# Altium footprint library PcbLib.PcbLib: 285 footprints (part 11 of 18)
Each footprint in its own frame and in the unit in brackets; x right, y up, seen from the top. Pads: shape width x height; smd on the part's side, far side on the other; paste and mask are expansions set on the pad; w line width, h text height; cw(c..) or ccw(c..) is an arc to the next point about the centre after c.
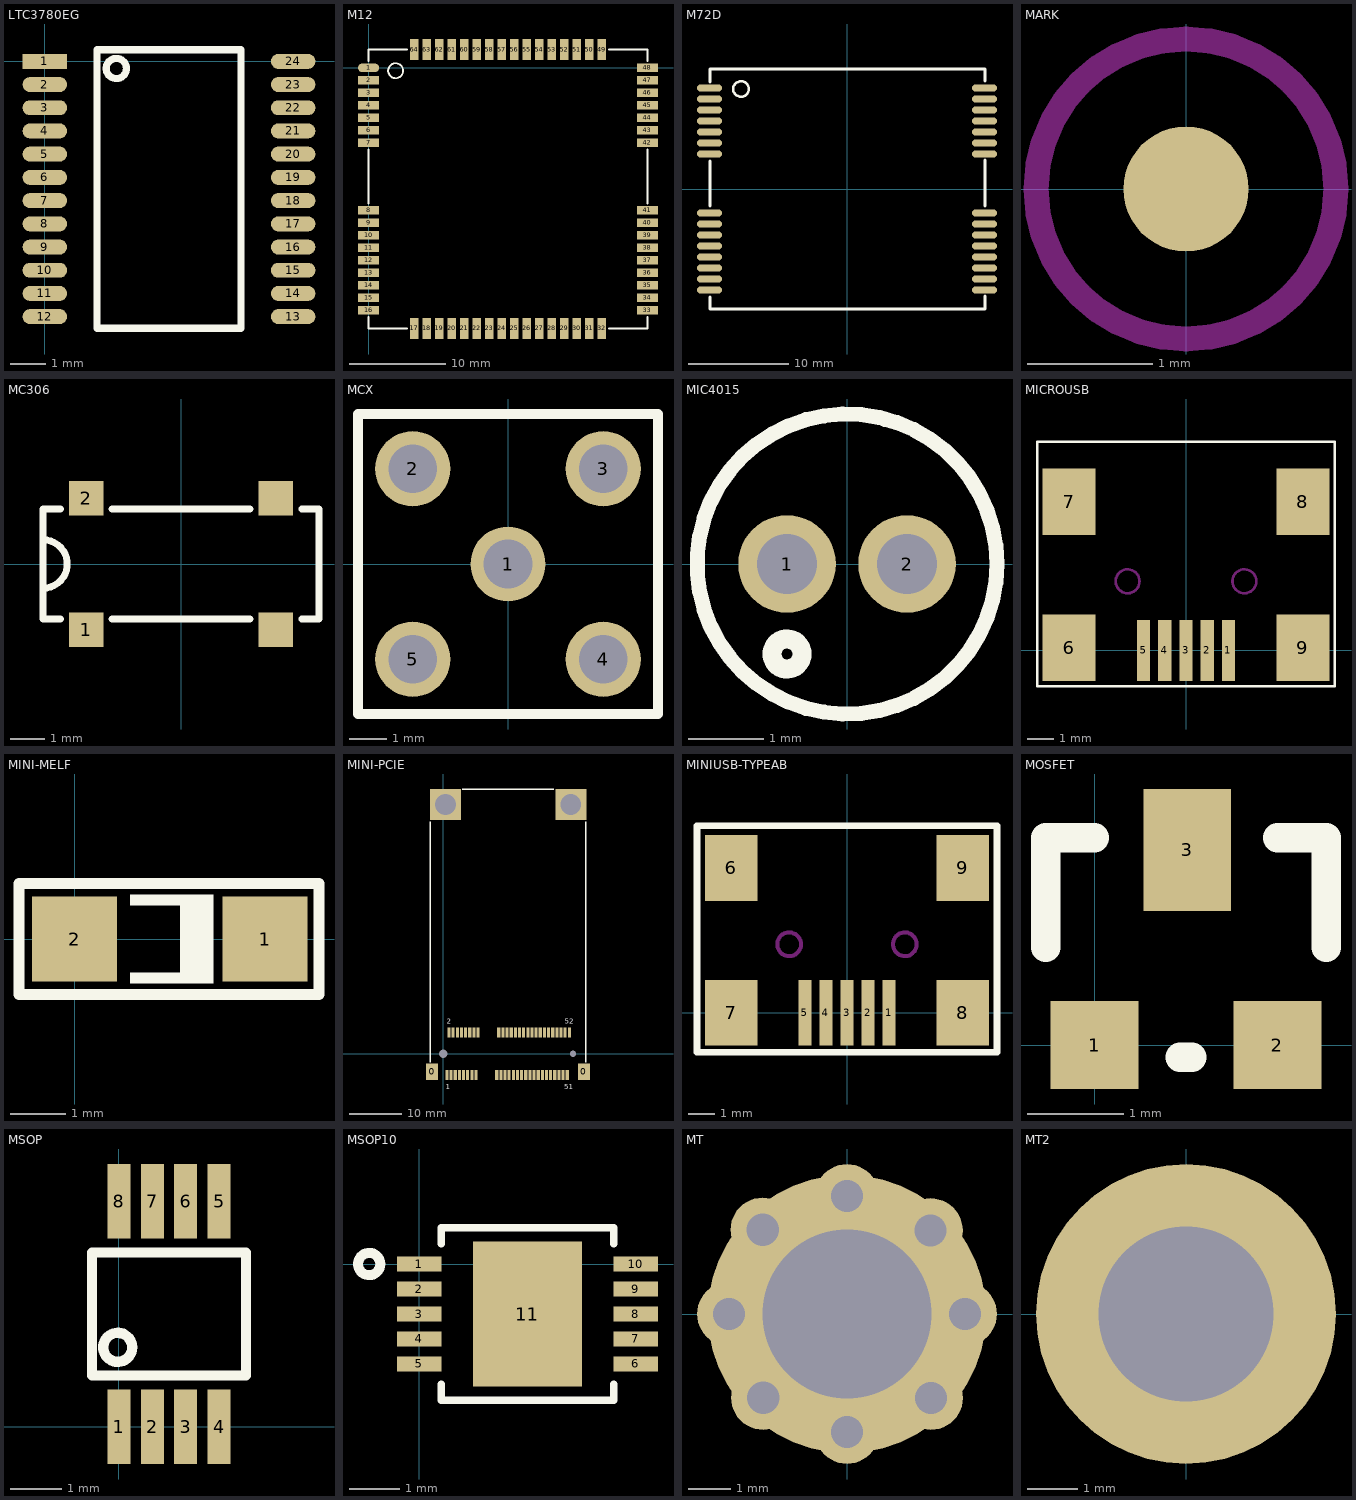
[diagram p10: the footprints below, top view; thin cyan lines are the x and y axes]

## LTC3780EG [mm]
pads (24):
  rect 1.25x0.42 smd: 1(0,0)
  oval 1.25x0.42 smd: 2(0,-0.65) 3(0,-1.3) 4(0,-1.95) 5(0,-2.6) 6(0,-3.25) 7(0,-3.9) 8(0,-4.55) 9(0,-5.2) 10(0,-5.85) 11(0,-6.5) 12(0,-7.15) 13(6.95,-7.15) 14(6.95,-6.5) 15(6.95,-5.85) 16(6.95,-5.2) 17(6.95,-4.55) 18(6.95,-3.9) 19(6.95,-3.25) 20(6.95,-2.6) 21(6.95,-1.95) 22(6.95,-1.3) 23(6.95,-0.65) 24(6.95,0)
Top Overlay:
  circle w0.2: c2,-0.2 r0.283
  lines w0.2: 3.1,0.325 4.3,0.325 ; 3.313,0.325 1.46,0.325 1.46,-7.475 5.49,-7.475 5.49,0.325 3.637,0.325

## M12 [mm]
pads (64):
  oval 2.2x0.9 smd: 1(0,0)
  rect 2.2x0.9 smd: 2(0,-1.3) 3(0,-2.6) 4(0,-3.9) 5(0,-5.2) 6(0,-6.5) 7(0,-7.8) 8(0,-14.8) 9(0,-16.1) 10(0,-17.4) 11(0,-18.7) 12(0,-20) 13(0,-21.3) 14(0,-22.6) 15(0,-23.9) 16(0,-25.2) 33(29,-25.2) 34(29,-23.9) 35(29,-22.6) 36(29,-21.3) 37(29,-20) 38(29,-18.7) 39(29,-17.4) 40(29,-16.1) 41(29,-14.8) 42(29,-7.8) 43(29,-6.5) 44(29,-5.2) 45(29,-3.9) 46(29,-2.6) 47(29,-1.3) 48(29,0)
  rect 0.9x2.2 smd: 17(4.75,-27.1) 18(6.05,-27.1) 19(7.35,-27.1) 20(8.65,-27.1) 21(9.95,-27.1) 22(11.25,-27.1) 23(12.55,-27.1) 24(13.85,-27.1) 25(15.15,-27.1) 26(16.45,-27.1) 27(17.75,-27.1) 28(19.05,-27.1) 29(20.35,-27.1) 30(21.65,-27.1) 31(22.95,-27.1) 32(24.25,-27.1) 49(24.25,1.9) 50(22.95,1.9) 51(21.65,1.9) 52(20.35,1.9) 53(19.05,1.9) 54(17.75,1.9) 55(16.45,1.9) 56(15.15,1.9) 57(13.85,1.9) 58(12.55,1.9) 59(11.25,1.9) 60(9.95,1.9) 61(8.65,1.9) 62(7.35,1.9) 63(6.05,1.9) 64(4.75,1.9)
Top Overlay:
  circle w0.2: c2.819,-0.3 r0.781
  lines w0.2: 0,-25.9 0,-27.1 4,-27.1 ; 0,-14.1 0,-8.5 ; 0,0.7 0,1.9 4,1.9 ; 25,-27.1 29,-27.1 29,-25.9 ; 25,1.9 29,1.9 29,0.7 ; 29,-14.1 29,-8.5

## M72D [mm]
pads (30):
  oval 2.5x0.7 smd: 1(-13.75,10.1) 2(-13.75,9) 3(-13.75,7.9) 4(-13.75,6.8) 5(-13.75,5.7) 6(-13.75,4.6) 7(-13.75,3.5) 8(-13.75,-2.4) 9(-13.75,-3.5) 10(-13.75,-4.6) 11(-13.75,-5.7) 12(-13.75,-6.8) 13(-13.75,-7.9) 14(-13.75,-9) 15(-13.75,-10.1) 16(13.75,-10.1) 17(13.75,-9) 18(13.75,-7.9) 19(13.75,-6.8) 20(13.75,-5.7) 21(13.75,-4.6) 22(13.75,-3.5) 23(13.75,-2.4) 24(13.75,3.5) 25(13.75,4.6) 26(13.75,5.7) 27(13.75,6.8) 28(13.75,7.9) 29(13.75,9) 30(13.75,10.1)
Top Overlay:
  circle w0.254: c-10.6,10 r0.781
  lines w0.254: -13.7,-10.8 -13.7,-12 13.8,-12 13.8,-10.7 ; -13.7,-1.7 -13.7,2.8 ; -13.7,10.7 -13.7,12 13.8,12 13.8,10.8 ; 13.8,-1.7 13.8,2.9

## MARK [mm]
pads (1):
  round 1 smd paste-0.5 mask+0.6: ""(0,0)
Keep-Out Layer:
  circle w0.2: c0,0 r1.2

## MC306 [mm]
pads (4):
  rect 1x1 smd: 1(-2.75,-1.9) 2(-2.75,1.9) ""(2.75,-1.9) ""(2.75,1.9)
Top Overlay:
  lines w0.1: -4,-1.6 -4,1.6
  lines w0.2: -4,-0.7 ccw(c-4,0) -4,0.7 ; -3.5,-1.6 -4,-1.6 -4,1.6 -3.5,1.6 ; -2,-1.6 2,-1.6 ; -2,1.6 2,1.6 ; 3.5,-1.6 4,-1.6 4,1.6 3.5,1.6

## MCX [mm]
pads (5):
  round 2 hole 1.3: 1(0,0) 2(-2.54,2.54) 3(2.54,2.54) 4(2.54,-2.54) 5(-2.54,-2.54)
Top Overlay:
  lines w0.254: -4,-4 -4,4 4,4 4,-4 -4,-4

## MIC4015 [mm]
pads (2):
  round 1.3 hole 0.8: 1(-0.8,0) 2(0.8,0)
Top Overlay:
  circle w0.2: c0,0 r2
  circle w0.254: c-0.8,-1.2 r0.2
  lines w0.15: 0.5,1.9 0.6,1.9

## MICROUSB [mm]
pads (9):
  rect 0.5x2.3 smd: 1(1.6,0) 2(0.8,0) 3(0,0) 4(-0.8,0) 5(-1.6,0)
  rect 2x2.5 smd: 6(-4.4,0.1) 7(-4.4,5.6) 8(4.4,5.6) 9(4.4,0.1)
Top Overlay:
  lines w0.1: -5.6,-1.35 -5.6,7.85 5.6,7.85 5.6,-1.3 5.6,-1.35 -4.7,-1.35 -5.6,-1.35
Keep-Out Layer:
  circle w0.1: c2.2,2.6 r0.45
  circle w0.1: c-2.2,2.6 r0.45

## MINI-MELF [mil]
pads (2):
  rect 60x60 smd: 1(135,0) 2(0,0)
Top Overlay:
  rectangle: 74.8,-31.5 98.43,31.5
  rectangle: 39.37,23.62 98.43,31.5
  rectangle: 39.37,-31.5 98.43,-23.62
  lines w7.87: 3.94,39.37 173.23,39.37 173.23,-39.37 -39.37,-39.37 -39.37,39.37 11.81,39.37

## MINI-PCIE [mm]
pads (60):
  rect 2.3x3.2 smd: 0(-2.15,-3.5) 0(27.1,-3.5)
  rect 0.6x2 smd: 1(0.7,-4.1) 2(1.1,4.1) 3(1.5,-4.1) 4(1.9,4.1) 5(2.3,-4.1) 6(2.7,4.1) 7(3.1,-4.1) 8(3.5,4.1) 9(3.9,-4.1) 10(4.3,4.1) 11(4.7,-4.1) 12(5.1,4.1) 13(5.5,-4.1) 14(5.9,4.1) 15(6.3,-4.1) 16(6.7,4.1) 17(10.3,-4.1) 18(10.7,4.1) 19(11.1,-4.1) 20(11.5,4.1) 21(11.9,-4.1) 22(12.3,4.1) 23(12.7,-4.1) 24(13.1,4.1) 25(13.5,-4.1) 26(13.9,4.1) 27(14.3,-4.1) 28(14.7,4.1) 29(15.1,-4.1) 30(15.5,4.1) 31(15.9,-4.1) 32(16.3,4.1) 33(16.7,-4.1) 34(17.1,4.1) 35(17.5,-4.1) 36(17.9,4.1) 37(18.3,-4.1) 38(18.7,4.1) 39(19.1,-4.1) 40(19.5,4.1) 41(19.9,-4.1) 42(20.3,4.1) 43(20.7,-4.1) 44(21.1,4.1) 45(21.5,-4.1) 46(21.9,4.1) 47(22.3,-4.1) 48(22.7,4.1) 49(23.1,-4.1) 50(23.5,4.1) 51(23.9,-4.1) 52(24.3,4.1)
  round 1 hole 1.7 unplated: ""(0,0)
  rect 6x6 hole 4: ""(0.4,48.05) ""(24.6,48.05)
  rect 6x6 on Top Paste: ""(0.4,48.05) ""(24.6,48.05)
  round 1 hole 1.2: ""(25,0)
Top Overlay:
  lines w0.254: -2.5,-1.6 -2.5,44.7 ; 3.7,51 21.3,51 ; 27.5,-1.6 27.5,44.7
  text "51" at 23.3,-6.8 h1
  text "52" at 23.4,5.8 h1
  text "2" at 0.7,5.8 h1
  text "1" at 0.5,-6.8 h1

## MINIUSB-TYPEAB [mm]
pads (9):
  rect 0.5x2.5 smd: 1(1.6,0) 2(0.8,0) 3(0,0) 4(-0.8,0) 5(-1.6,0)
  rect 2x2.5 smd: 6(-4.4,5.5) 7(-4.4,0) 8(4.4,0) 9(4.4,5.5)
Top Overlay:
  lines w0.254: -0.3,-1.5 5.7,-1.5 5.7,7.1 -5.7,7.1 -5.7,7 -5.7,-1.5 -5.6,-1.5 0,-1.5
Keep-Out Layer:
  circle w0.152: c2.2,2.6 r0.45
  circle w0.152: c-2.2,2.6 r0.45

## MOSFET [mil]
pads (3):
  rect 36x36 smd: 1(0,0) 2(75,0)
  rect 36x50 smd: 3(38,80)
Top Overlay:
  lines w12: -20,40 -20,85 0,85 ; 35,-5 40,-5 ; 75,85 95,85 95,40

## MSOP [mm]
pads (8):
  rect 0.45x1.45 smd: 1(0,0) 2(0.65,0) 3(1.3,0) 4(1.95,0) 5(1.95,4.4) 6(1.3,4.4) 7(0.65,4.4) 8(0,4.4)
Top Overlay:
  circle w0.2: c-0.025,1.55 r0.283
  lines w0.2: -0.525,1 -0.525,3.4 0.975,3.4 2.475,3.4 2.475,1 -0.525,1

## MSOP10 [mil]
pads (11):
  rect 35x12 smd: 1(0,0) 2(0,-19.68) 3(0,-39.37) 4(0,-59.06) 5(0,-78.74) 6(170.9,-78.74) 7(170.9,-59.06) 8(170.9,-39.37) 9(170.9,-19.68) 10(170.9,0)
  rect 86x114 smd: 11(85.45,-39.37)
Top Overlay:
  circle w7.87: c-39.37,0 r8.8
  lines w6: 17.39,-94.74 17.39,-107.43 153.51,-107.43 153.51,-94.74 ; 17.39,16 17.39,28.69 153.51,28.69 153.51,16
Top Paste:
  pour cut-out: 89.78,6.3 119.78,6.3 119.78,-33.7 89.78,-33.7
  pour cut-out: 51.12,-45.03 81.12,-45.03 81.12,-85.03 51.12,-85.03
  pour cut-out: 51.12,6.3 81.12,6.3 81.12,-33.7 51.12,-33.7
  pour cut-out: 89.78,-45.03 119.78,-45.03 119.78,-85.03 89.78,-85.03

## MT [mil]
pads (9):
  round 60 hole 30: ""(-110,0) ""(-78.63,78.63) ""(-78.16,-78.16) ""(0,-110) ""(0,110) ""(78.04,78.04) ""(78.28,-78.28) ""(110,0)
  round 259.84 hole 157.48: ""(0,0)

## MT2 [mm]
pads (1):
  round 6 hole 3.5: ""(0,0)